# EAGLE library part DMMT3904 (library mmoretti)
Dual NPN transistor
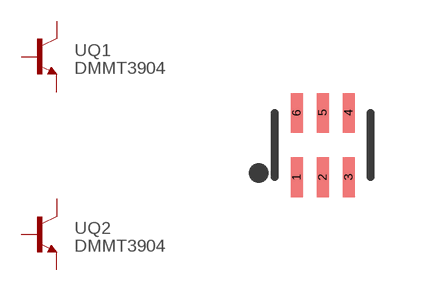
[diagram p29: symbol with the pads of SOT363; footprint SOT363]

Designator prefix -; gates Q1=NPN Q2=NPN

## DMMT3904  [SOT363]
1  Q1:B  pas
2  Q2:B  pas
3  Q2:C  pas
4  Q2:E  pas
5  Q1:E  pas
6  Q1:C  pas

## Footprint SOT363 (pad centres in mm)
smd 0.3 x 0.99: 1 -0.65,-0.8; 2 0,-0.8; 3 0.65,-0.8; 4 0.65,0.81; 5 0,0.81; 6 -0.65,0.81